# Altium schematic symbol library LF10WBRB-12PD.Schlib: 1 symbol
Pins are listed as number, name and electrical type; pins without a type are passive.

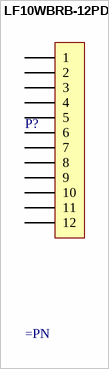
[diagram p0: symbol LF10WBRB-12PD]

## LF10WBRB-12PD
designator P?
Hirose LF10WBRB-12PD
pins: 1, 2, 3, 4, 5, 6, 7, 8, 9, 10, 11, 12